# EAGLE library part ADR127 (library OSSI)
ADR127 Precision, Micropower LDO Voltage References in TSOT ADR127BUJZ-REEL7
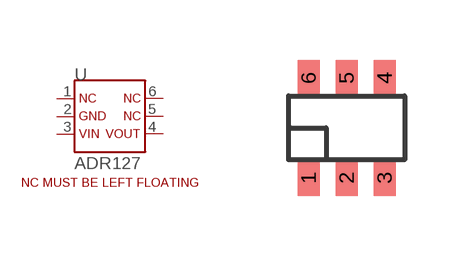
[diagram p49: symbol with the pads of TSOT-6UJ-6; footprint TSOT-6UJ-6]

Designator prefix U

## ADR127BUJZ-REEL7  [TSOT-6UJ-6]
1  P$1
2  P$2
3  P$3
4  P$4
5  P$5
6  P$6

## Footprint TSOT-6UJ-6 (pad centres in mm)
smd 0.55 x 0.9: 1 -0.95,-1.25; 2 0,-1.25; 3 0.95,-1.25; 4 0.95,1.25; 5 0,1.25; 6 -0.95,1.25